# Altium footprint library rgb_ca_footprint.PcbLib: 1 footprints
Each footprint in its own frame and in the unit in brackets; x right, y up, seen from the top. Pads: shape width x height; smd on the part's side, far side on the other; paste and mask are expansions set on the pad; w line width, h text height; cw(c..) or ccw(c..) is an arc to the next point about the centre after c.
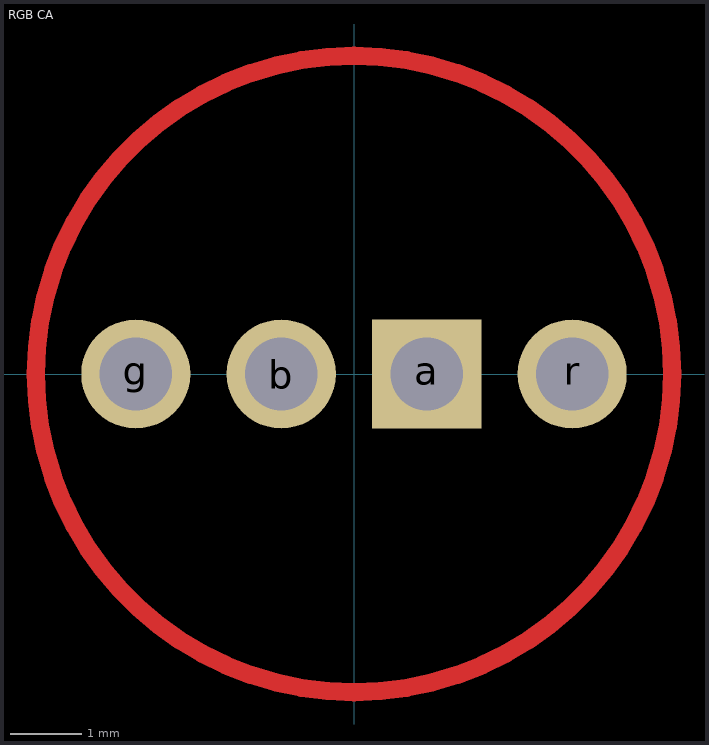
[diagram p0: the footprint, top view; thin cyan lines are the x and y axes]

## RGB CA [mil]
pads (4):
  rect 60x60 hole 40: a(40,0)
  round 60 hole 40: b(-40,0) g(-120,0) r(120,0)
Top Layer:
  circle w10: c0,0 r175